# Altium schematic symbol library XT60PW-F.SchLib: 1 symbol
Pins are listed as number, name and electrical type; pins without a type are passive.

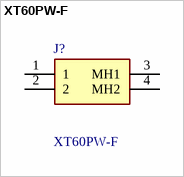
[diagram p0: symbol XT60PW-F]

## XT60PW-F
designator J?
Socket; DC supply; XT60; female; PIN: 2; on PCBs; THT; Colour: yellow; Manufacturer_Name: Amass; Geometry.Height: 8.4mm; RS Part Number: *; RS Price/Stock: *; Manufacturer_Part_Number: XT60PW-F; Datasheet Link: https://www.tme.eu/Document/1191bc2fa3aee3c446e5a895fd8f7983/XT60PW-F.pdf
footprint XT60PWF
pins: 1, 2, 3 MH1, 4 MH2